# Altium schematic symbol library CAP 3.3uF 35V.Schlib: 1 symbol
Pins are listed as number, name and electrical type; pins without a type are passive.

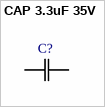
[diagram p0: symbol CAP 3.3uF 35V]

## CAP 3.3uF 35V
designator C?
CAP CER 3.3UF 35V X7R 0603/0805
pins: 1 C1, 2 C2